# Altium integrated library Audio.IntLib: 9 symbols
Pins are listed as number, name and electrical type; pins without a type are passive.

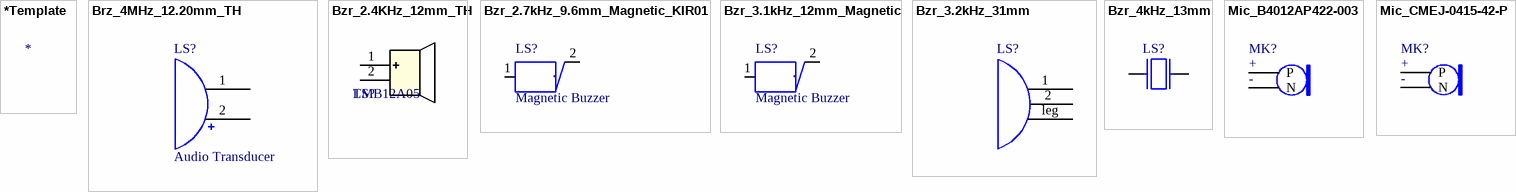
[diagram p0: symbols *Template to Mic_CMEJ-0415-42-P]

## *Template
designator *

## Brz_4MHz_12.20mm_TH
designator LS?, comment Audio Transducer
BUZZER PIEZO 3V 12.2MM TH; Manufacturer: TDK Corporation; Manufacturer Part Number: PS1240P02BT; Supplier 1: Digi-key; Supplier Part Number 1: 445-2525-1-ND; Last modified by: J.Jaramillo; Last modified date: 20240309; ComponentLink1Description: Digi-key; ComponentLink1URL: https://www.digikey.com/en/products/detail/tdk-corporation/PS1240P02BT/935930?s=N4IgTCBcDaIAoGUCMYAsAGO6wCEAqIAugL5A
footprint BZR_PS1240P02BT (/20220517/F-A.Ospina)
pins: 1, 2

## Bzr_2.4KHz_12mm_TH
designator LS?, comment TMB12A05
85dB Active (driven circuit included) Magnetic 2.7kHz Plugin,D=12mm Buzzers ROHS; Manufacturer: Jiangsu  Huaneng Elec; Manufacturer Part Number: TMB12A05; Supplier 1: LCSC; Supplier Part Number 1: C96093
footprint Bzr_TMB12A05 _12mm_TH (/ 20240605/ J.Jaramillo)
pins: 1, 2

## Bzr_2.7kHz_9.6mm_Magnetic_KIR01
designator LS?, comment Magnetic Buzzer
AUDIO MAGNETIC INDICATOR 4-7V TH; Manufacturer: CUI Inc.; Manufacturer Part Number: CX-0905C; Supplier 1: Digi-Key; Supplier Part Number 1: 102-1285-ND; Last modified by: J.Jaramillo; Last modified date: 20240309; ComponentLink1Description: Digi-Key; ComponentLink1URL: https://www.digikey.com/products/en?keywords=CX-0905C
footprint Bzr_CX-0905C (/ 20190710/ C-A.Serna.A)
pins: 1 c, 2 c

## Bzr_3.1kHz_12mm_Magnetic
designator LS?, comment Magnetic Buzzer
AUDIO MAGNETIC XDCR 2-5V TH; Manufacturer: Soberton Inc.; Manufacturer Part Number: WST-1203BX; Supplier 1: Digi-Key; Supplier Part Number 1: 433-1080-ND; Last modified by: J.Jaramillo; Last modified date: 20240309; ComponentLink1Description: Digi-Key; ComponentLink1URL: https://www.digikey.com/products/en?keywords=433-1080-ND
footprint Bzr_WST-1203BX (/ 20190710 / C-A.Serna.A)
pins: 1, 2

## Bzr_3.2kHz_31mm
designator LS?, comment Audio Transducer  (value not drawn)
PIEZO AUDIO TRANSDUCER; Manufacturer: KINGSTATE ELECTRONICS CORP; Manufacturer Part Number: KPEG132H-30PH; Supplier 1: KINGSTATE ELECTRONICS CORP; Supplier Part Number 1: KPEG132H-30PH; Last modified by: J.Jaramillo; Last modified date: 20240309; ComponentLink1Description: kingstate; ComponentLink1URL: https://www.kingstate.com.tw/product/525/path_1-17/
footprint BZR_KPEG132H-30PH (/20210318/J-E.Pachon)
pins: 1, 2, leg

## Bzr_4kHz_13mm
designator LS?, comment Audio Transducer  (value not drawn)
AUDIO PIEZO TRANSDUCER 30V TH; Manufacturer: TDK Corporation; Manufacturer Part Number: PS1240P02BT; Supplier 1: Digi-Key; Supplier Part Number 1: 445-2525-1-ND; Last modified by: J.Jaramillo; Last modified date: 20240309; ComponentLink1Description: kingstate; ComponentLink1URL: https://www.digikey.com/en/products/detail/tdk-corporation/PS1240P02BT/935930?s=N4IgTCBcDaICxwKwFoyLcgjMgcgERAF0BfIA
footprint PZ_PS1240P02BT_13MM (/20210907)
pins: 1, 2

## Mic_B4012AP422-003
designator MK?, comment B4012AP422-003  (value not drawn)
Through Hole Electret Condenser Microphone RoHS; Manufacturer: Goertek; Manufacturer Part Number: B4012AP422-003; Supplier 1: LCSC; Supplier Part Number 1: C233791; Last modified by: J.Jaramillo; Last modified date: 20240309; ComponentLink1Description: LCSC; ComponentLink1URL: https://lcsc.com/product-detail/Electret-Condenser-Microphone_Goertek-B4012AP422-003_C233791.html
footprint MIC_B4012AP422-003_4mm (/ 20210421 / C-D Viveros)
pins: 1 P, 2 N
text: +; -

## Mic_CMEJ-0415-42-P
designator MK?, comment CMEJ-0415-42-P  (value not drawn)
MIC COND ANALOG OMNI -42DB 4MM D; Manufacturer: CUI Devices; Manufacturer Part Number: CMEJ-0415-42-P; Supplier 1: Digi-key; Supplier Part Number 1: 102-6542-ND; Last modified by: J.Jaramillo; Last modified date: 20240309; ComponentLink1Description: Digi-key; ComponentLink1URL: https://www.digikey.com/en/products/detail/cui-devices/CMEJ-0415-42-P/10253451?s=N4IgTCBcDaIMIFkCiApAtABgCwEYCsaWYaACiALoC%2BQA
footprint Mic_CMEJ-0415-42-P_4mm (/20210419/V-A.Patino)
pins: 1 P, 2 N
text: +; -